# EAGLE library part USB2517 (library 1dah)
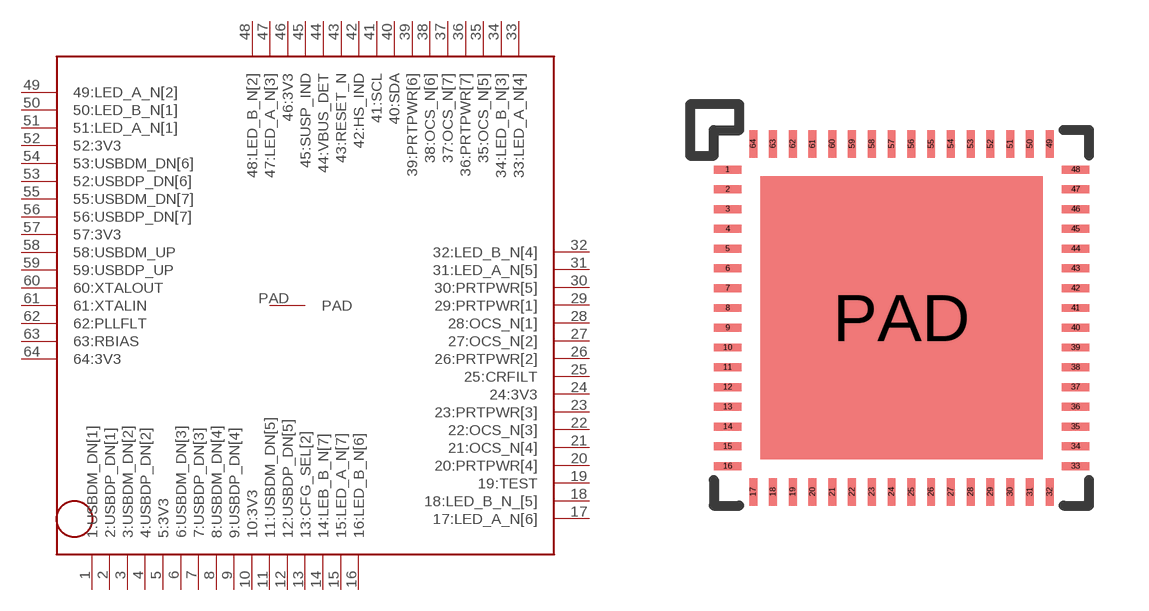
[diagram p60: symbol with the pads of QFN-64; footprint QFN-64]

Designator prefix -

## USB2517  [QFN-64]
1  1:USBDM_DN[1]
2  2:USBDP_DN[1]
3  3:USBDM_DN[2]
4  4:USBDP_DN[2]
5  5:3V3
6  6:USBDM_DN[3]
7  7:USBDP_DN[3]
8  8:USBDM_DN[4]
9  9:USBDP_DN[4]
10  10:3V3
11  11:USBDM_DN[5]
12  12:USBDP_DN[5]
13  13:CFG_SEL[2]
14  14:LEB_B_N[7]
15  15:LED_A_N[7]
16  16:LED_B_N[6]
17  17:LED_A_N[6]
18  18:LED_B_N_[5]
19  19:TEST
20  20:PRTPWR[4]
21  21:OCS_N[4]
22  22:OCS_N[3]
23  23:PRTPWR[3]
24  24:3V3
25  25:CRFILT
26  26:PRTPWR[2]
27  27:OCS_N[2]
28  28:OCS_N[1]
29  29:PRTPWR[1]
30  30:PRTPWR[5]
31  31:LED_A_N[5]
32  32:LED_B_N[4]
33  33:LED_A_N[4]
34  34:LED_B_N[3]
35  35:OCS_N[5]
36  36:PRTPWR[7]
37  37:OCS_N[7]
38  38:OCS_N[6]
39  39:PRTPWR[6]
40  40:SDA
41  41:SCL
42  42:HS_IND
43  43:RESET_N
44  44:VBUS_DET
45  45:SUSP_IND
46  46:3V3
47  47:LED_A_N[3]
48  48:LED_B_N[2]
49  49:LED_A_N[2]
50  50:LED_B_N[1]
51  51:LED_A_N[1]
52  52:3V3
53  52:USBDP_DN[6]
54  53:USBDM_DN[6]
55  55:USBDM_DN[7]
56  56:USBDP_DN[7]
57  57:3V3
58  58:USBDM_UP
59  59:USBDP_UP
60  60:XTALOUT
61  61:XTALIN
62  62:PLLFLT
63  63:RBIAS
64  64:3V3
PAD  PAD

## Footprint QFN-64 (pad centres in mm)
smd 0.7 x 0.2: 1 -4.4,3.75; 2 -4.4,3.25; 3 -4.4,2.75; 4 -4.4,2.25; 5 -4.4,1.75; 6 -4.4,1.25; 7 -4.4,0.75; 8 -4.4,0.25; 9 -4.4,-0.25; 10 -4.4,-0.75; 11 -4.4,-1.25; 12 -4.4,-1.75; 13 -4.4,-2.25; 14 -4.4,-2.75; 15 -4.4,-3.25; 16 -4.4,-3.75; 33 4.4,-3.75; 34 4.4,-3.25; 35 4.4,-2.75; 36 4.4,-2.25; 37 4.4,-1.75; 38 4.4,-1.25; 39 4.4,-0.75; 40 4.4,-0.25; 41 4.4,0.25; 42 4.4,0.75; 43 4.4,1.25; 44 4.4,1.75; 45 4.4,2.25; 46 4.4,2.75; 47 4.4,3.25; 48 4.4,3.75
smd 0.2 x 0.7: 17 -3.75,-4.4; 18 -3.25,-4.4; 19 -2.75,-4.4; 20 -2.25,-4.4; 21 -1.75,-4.4; 22 -1.25,-4.4; 23 -0.75,-4.4; 24 -0.25,-4.4; 25 0.25,-4.4; 26 0.75,-4.4; 27 1.25,-4.4; 28 1.75,-4.4; 29 2.25,-4.4; 30 2.75,-4.4; 31 3.25,-4.4; 32 3.75,-4.4; 49 3.75,4.4; 50 3.25,4.4; 51 2.75,4.4; 52 2.25,4.4; 53 1.75,4.4; 54 1.25,4.4; 55 0.75,4.4; 56 0.25,4.4; 57 -0.25,4.4; 58 -0.75,4.4; 59 -1.25,4.4; 60 -1.75,4.4; 61 -2.25,4.4; 62 -2.75,4.4; 63 -3.25,4.4; 64 -3.75,4.4
smd 7.15 x 7.15: PAD 0,0